# EAGLE library part AT32UC3A3* (library ic-ATMEL)
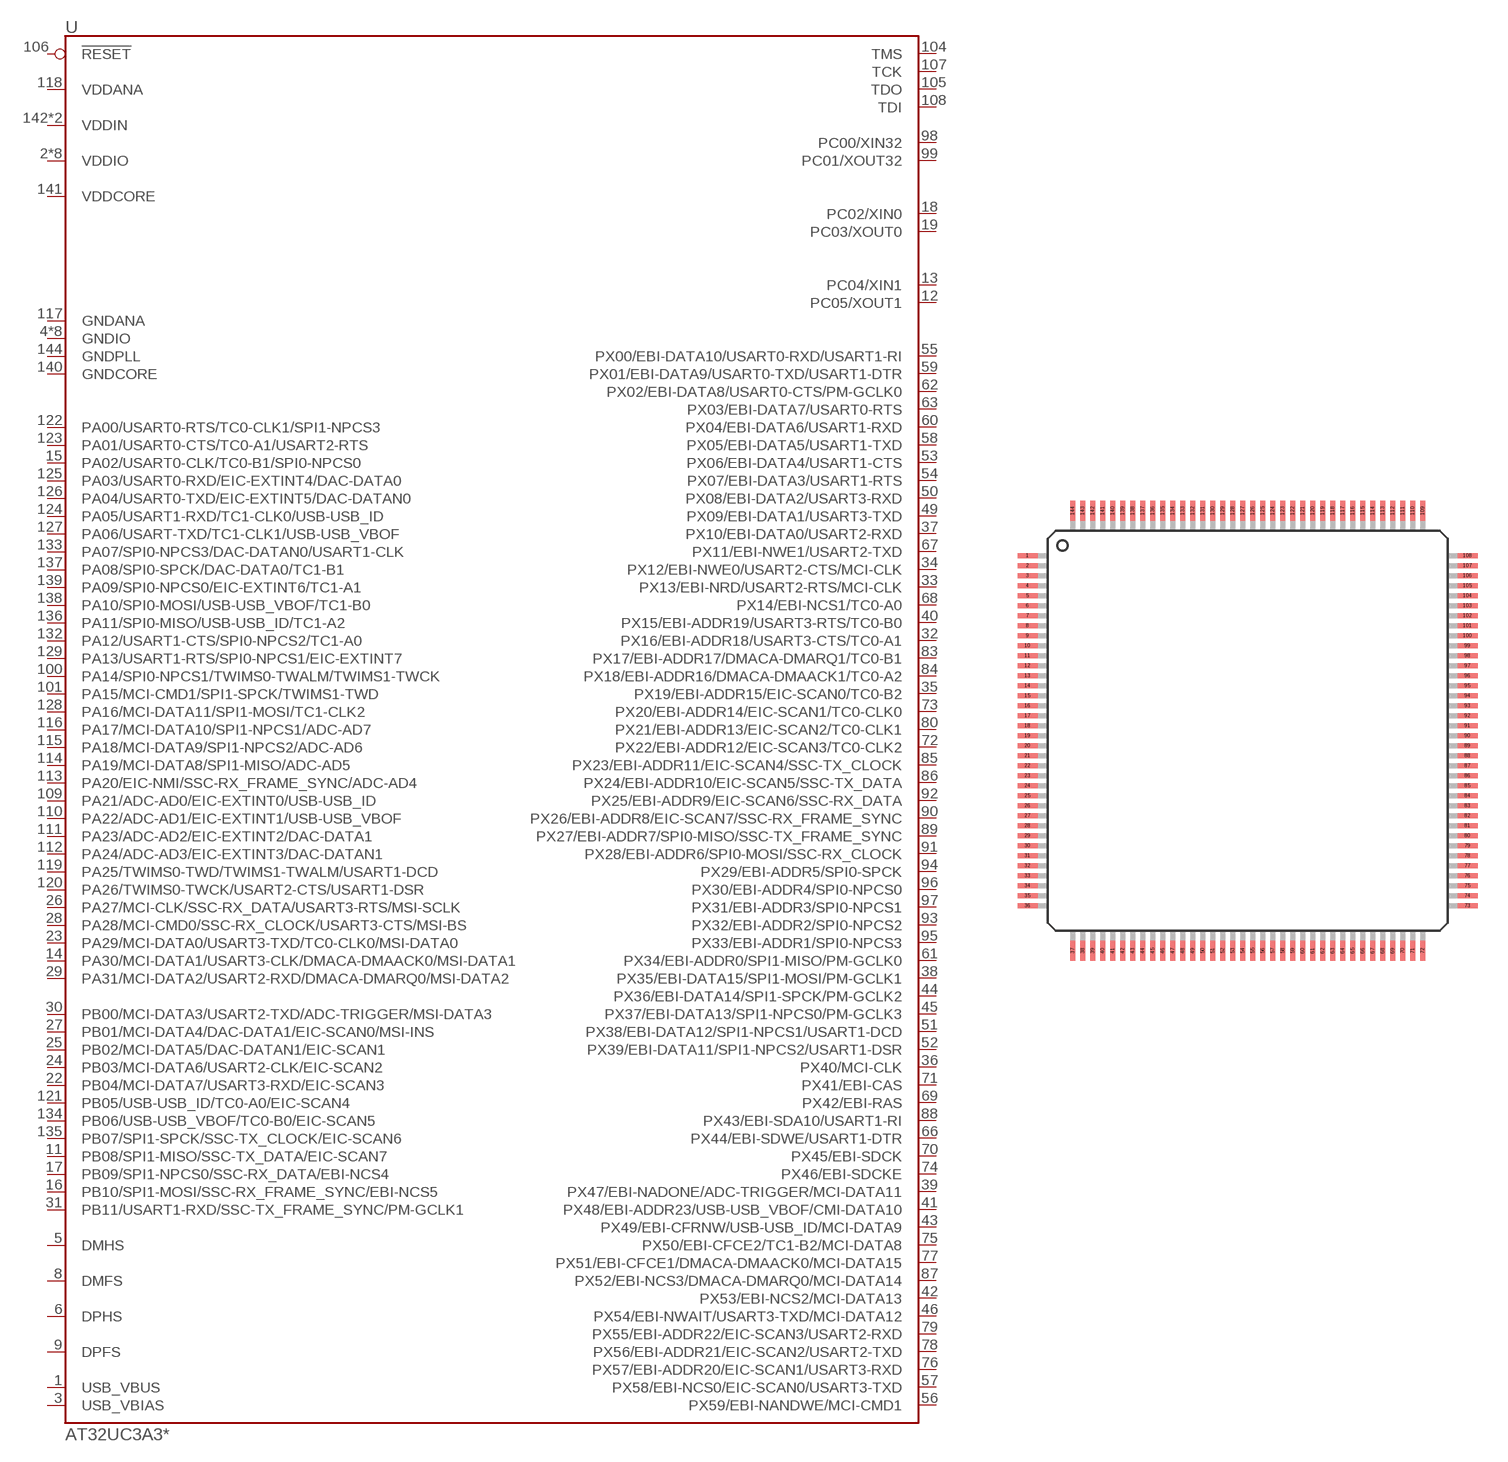
[diagram p5: symbol with the pads of QFP144-0.5; footprint QFP144-0.5]

Designator prefix U

## AT32UC3A3128, AT32UC3A3256, AT32UC3A364  [QFP144-0.5]
1  USB_VBUS
2  VDDIO
3  USB_VBIAS
4  GNDIO
5  DMHS
6  DPHS
7  GNDIO
8  DMFS
9  DPFS
10  VDDIO
11  PB08/SPI1-MISO/SSC-TX_DATA/EIC-SCAN7
12  PC05/XOUT1
13  PC04/XIN1
14  PA30/MCI-DATA1/USART3-CLK/DMACA-DMAACK0/MSI-DATA1
15  PA02/USART0-CLK/TC0-B1/SPI0-NPCS0
16  PB10/SPI1-MOSI/SSC-RX_FRAME_SYNC/EBI-NCS5
17  PB09/SPI1-NPCS0/SSC-RX_DATA/EBI-NCS4
18  PC02/XIN0
19  PC03/XOUT0
20  GNDIO
21  VDDIO
22  PB04/MCI-DATA7/USART3-RXD/EIC-SCAN3
23  PA29/MCI-DATA0/USART3-TXD/TC0-CLK0/MSI-DATA0
24  PB03/MCI-DATA6/USART2-CLK/EIC-SCAN2
25  PB02/MCI-DATA5/DAC-DATAN1/EIC-SCAN1
26  PA27/MCI-CLK/SSC-RX_DATA/USART3-RTS/MSI-SCLK
27  PB01/MCI-DATA4/DAC-DATA1/EIC-SCAN0/MSI-INS
28  PA28/MCI-CMD0/SSC-RX_CLOCK/USART3-CTS/MSI-BS
29  PA31/MCI-DATA2/USART2-RXD/DMACA-DMARQ0/MSI-DATA2
30  PB00/MCI-DATA3/USART2-TXD/ADC-TRIGGER/MSI-DATA3
31  PB11/USART1-RXD/SSC-TX_FRAME_SYNC/PM-GCLK1
32  PX16/EBI-ADDR18/USART3-CTS/TC0-A1
33  PX13/EBI-NRD/USART2-RTS/MCI-CLK
34  PX12/EBI-NWE0/USART2-CTS/MCI-CLK
35  PX19/EBI-ADDR15/EIC-SCAN0/TC0-B2
36  PX40/MCI-CLK
37  PX10/EBI-DATA0/USART2-RXD
38  PX35/EBI-DATA15/SPI1-MOSI/PM-GCLK1
39  PX47/EBI-NADONE/ADC-TRIGGER/MCI-DATA11
40  PX15/EBI-ADDR19/USART3-RTS/TC0-B0
41  PX48/EBI-ADDR23/USB-USB_VBOF/CMI-DATA10
42  PX53/EBI-NCS2/MCI-DATA13
43  PX49/EBI-CFRNW/USB-USB_ID/MCI-DATA9
44  PX36/EBI-DATA14/SPI1-SPCK/PM-GCLK2
45  PX37/EBI-DATA13/SPI1-NPCS0/PM-GCLK3
46  PX54/EBI-NWAIT/USART3-TXD/MCI-DATA12
47  GNDIO
48  VDDIO
49  PX09/EBI-DATA1/USART3-TXD
50  PX08/EBI-DATA2/USART3-RXD
51  PX38/EBI-DATA12/SPI1-NPCS1/USART1-DCD
52  PX39/EBI-DATA11/SPI1-NPCS2/USART1-DSR
53  PX06/EBI-DATA4/USART1-CTS
54  PX07/EBI-DATA3/USART1-RTS
55  PX00/EBI-DATA10/USART0-RXD/USART1-RI
56  PX59/EBI-NANDWE/MCI-CMD1
57  PX58/EBI-NCS0/EIC-SCAN0/USART3-TXD
58  PX05/EBI-DATA5/USART1-TXD
59  PX01/EBI-DATA9/USART0-TXD/USART1-DTR
60  PX04/EBI-DATA6/USART1-RXD
61  PX34/EBI-ADDR0/SPI1-MISO/PM-GCLK0
62  PX02/EBI-DATA8/USART0-CTS/PM-GCLK0
63  PX03/EBI-DATA7/USART0-RTS
64  VDDIO
65  GNDIO
66  PX44/EBI-SDWE/USART1-DTR
67  PX11/EBI-NWE1/USART2-TXD
68  PX14/EBI-NCS1/TC0-A0
69  PX42/EBI-RAS
70  PX45/EBI-SDCK
71  PX41/EBI-CAS
72  PX22/EBI-ADDR12/EIC-SCAN3/TC0-CLK2
73  PX20/EBI-ADDR14/EIC-SCAN1/TC0-CLK0
74  PX46/EBI-SDCKE
75  PX50/EBI-CFCE2/TC1-B2/MCI-DATA8
76  PX57/EBI-ADDR20/EIC-SCAN1/USART3-RXD
77  PX51/EBI-CFCE1/DMACA-DMAACK0/MCI-DATA15
78  PX56/EBI-ADDR21/EIC-SCAN2/USART2-TXD
79  PX55/EBI-ADDR22/EIC-SCAN3/USART2-RXD
80  PX21/EBI-ADDR13/EIC-SCAN2/TC0-CLK1
81  VDDIO
82  GNDIO
83  PX17/EBI-ADDR17/DMACA-DMARQ1/TC0-B1
84  PX18/EBI-ADDR16/DMACA-DMAACK1/TC0-A2
85  PX23/EBI-ADDR11/EIC-SCAN4/SSC-TX_CLOCK
86  PX24/EBI-ADDR10/EIC-SCAN5/SSC-TX_DATA
87  PX52/EBI-NCS3/DMACA-DMARQ0/MCI-DATA14
88  PX43/EBI-SDA10/USART1-RI
89  PX27/EBI-ADDR7/SPI0-MISO/SSC-TX_FRAME_SYNC
90  PX26/EBI-ADDR8/EIC-SCAN7/SSC-RX_FRAME_SYNC
91  PX28/EBI-ADDR6/SPI0-MOSI/SSC-RX_CLOCK
92  PX25/EBI-ADDR9/EIC-SCAN6/SSC-RX_DATA
93  PX32/EBI-ADDR2/SPI0-NPCS2
94  PX29/EBI-ADDR5/SPI0-SPCK
95  PX33/EBI-ADDR1/SPI0-NPCS3
96  PX30/EBI-ADDR4/SPI0-NPCS0
97  PX31/EBI-ADDR3/SPI0-NPCS1
98  PC00/XIN32
99  PC01/XOUT32
100  PA14/SPI0-NPCS1/TWIMS0-TWALM/TWIMS1-TWCK
101  PA15/MCI-CMD1/SPI1-SPCK/TWIMS1-TWD
102  GNDIO
103  VDDIO
104  TMS
105  TDO
106  !RESET
107  TCK
108  TDI
109  PA21/ADC-AD0/EIC-EXTINT0/USB-USB_ID
110  PA22/ADC-AD1/EIC-EXTINT1/USB-USB_VBOF
111  PA23/ADC-AD2/EIC-EXTINT2/DAC-DATA1
112  PA24/ADC-AD3/EIC-EXTINT3/DAC-DATAN1
113  PA20/EIC-NMI/SSC-RX_FRAME_SYNC/ADC-AD4
114  PA19/MCI-DATA8/SPI1-MISO/ADC-AD5
115  PA18/MCI-DATA9/SPI1-NPCS2/ADC-AD6
116  PA17/MCI-DATA10/SPI1-NPCS1/ADC-AD7
117  GNDANA
118  VDDANA
119  PA25/TWIMS0-TWD/TWIMS1-TWALM/USART1-DCD
120  PA26/TWIMS0-TWCK/USART2-CTS/USART1-DSR
121  PB05/USB-USB_ID/TC0-A0/EIC-SCAN4
122  PA00/USART0-RTS/TC0-CLK1/SPI1-NPCS3
123  PA01/USART0-CTS/TC0-A1/USART2-RTS
124  PA05/USART1-RXD/TC1-CLK0/USB-USB_ID
125  PA03/USART0-RXD/EIC-EXTINT4/DAC-DATA0
126  PA04/USART0-TXD/EIC-EXTINT5/DAC-DATAN0
127  PA06/USART-TXD/TC1-CLK1/USB-USB_VBOF
128  PA16/MCI-DATA11/SPI1-MOSI/TC1-CLK2
129  PA13/USART1-RTS/SPI0-NPCS1/EIC-EXTINT7
130  VDDIO
131  GNDIO
132  PA12/USART1-CTS/SPI0-NPCS2/TC1-A0
133  PA07/SPI0-NPCS3/DAC-DATAN0/USART1-CLK
134  PB06/USB-USB_VBOF/TC0-B0/EIC-SCAN5
135  PB07/SPI1-SPCK/SSC-TX_CLOCK/EIC-SCAN6
136  PA11/SPI0-MISO/USB-USB_ID/TC1-A2
137  PA08/SPI0-SPCK/DAC-DATA0/TC1-B1
138  PA10/SPI0-MOSI/USB-USB_VBOF/TC1-B0
139  PA09/SPI0-NPCS0/EIC-EXTINT6/TC1-A1
140  GNDCORE
141  VDDCORE
142  VDDIN
143  VDDIN
144  GNDPLL

## Footprint QFP144-0.5 (pad centres in mm)
smd 1 x 0.25: 1 -11,8.75; 2 -11,8.25; 3 -11,7.75; 4 -11,7.25; 5 -11,6.75; 6 -11,6.25; 7 -11,5.75; 8 -11,5.25; 9 -11,4.75; 10 -11,4.25; 11 -11,3.75; 12 -11,3.25; 13 -11,2.75; 14 -11,2.25; 15 -11,1.75; 16 -11,1.25; 17 -11,0.75; 18 -11,0.25; 19 -11,-0.25; 20 -11,-0.75; 21 -11,-1.25; 22 -11,-1.75; 23 -11,-2.25; 24 -11,-2.75; 25 -11,-3.25; 26 -11,-3.75; 27 -11,-4.25; 28 -11,-4.75; 29 -11,-5.25; 30 -11,-5.75; 31 -11,-6.25; 32 -11,-6.75; 33 -11,-7.25; 34 -11,-7.75; 35 -11,-8.25; 36 -11,-8.75; 73 11,-8.75; 74 11,-8.25; 75 11,-7.75; 76 11,-7.25; 77 11,-6.75; 78 11,-6.25; 79 11,-5.75; 80 11,-5.25; 81 11,-4.75; 82 11,-4.25; 83 11,-3.75; 84 11,-3.25; 85 11,-2.75; 86 11,-2.25; 87 11,-1.75; 88 11,-1.25; 89 11,-0.75; 90 11,-0.25; 91 11,0.25; 92 11,0.75; 93 11,1.25; 94 11,1.75; 95 11,2.25; 96 11,2.75; 97 11,3.25; 98 11,3.75; 99 11,4.25; 100 11,4.75; 101 11,5.25; 102 11,5.75; 103 11,6.25; 104 11,6.75; 105 11,7.25; 106 11,7.75; 107 11,8.25; 108 11,8.75
smd 0.25 x 1: 37 -8.75,-11; 38 -8.25,-11; 39 -7.75,-11; 40 -7.25,-11; 41 -6.75,-11; 42 -6.25,-11; 43 -5.75,-11; 44 -5.25,-11; 45 -4.75,-11; 46 -4.25,-11; 47 -3.75,-11; 48 -3.25,-11; 49 -2.75,-11; 50 -2.25,-11; 51 -1.75,-11; 52 -1.25,-11; 53 -0.75,-11; 54 -0.25,-11; 55 0.25,-11; 56 0.75,-11; 57 1.25,-11; 58 1.75,-11; 59 2.25,-11; 60 2.75,-11; 61 3.25,-11; 62 3.75,-11; 63 4.25,-11; 64 4.75,-11; 65 5.25,-11; 66 5.75,-11; 67 6.25,-11; 68 6.75,-11; 69 7.25,-11; 70 7.75,-11; 71 8.25,-11; 72 8.75,-11; 109 8.75,11; 110 8.25,11; 111 7.75,11; 112 7.25,11; 113 6.75,11; 114 6.25,11; 115 5.75,11; 116 5.25,11; 117 4.75,11; 118 4.25,11; 119 3.75,11; 120 3.25,11; 121 2.75,11; 122 2.25,11; 123 1.75,11; 124 1.25,11; 125 0.75,11; 126 0.25,11; 127 -0.25,11; 128 -0.75,11; 129 -1.25,11; 130 -1.75,11; 131 -2.25,11; 132 -2.75,11; 133 -3.25,11; 134 -3.75,11; 135 -4.25,11; 136 -4.75,11; 137 -5.25,11; 138 -5.75,11; 139 -6.25,11; 140 -6.75,11; 141 -7.25,11; 142 -7.75,11; 143 -8.25,11; 144 -8.75,11